# Altium schematic symbol library Mod.SchLib: 25 symbols
Pins are listed as number, name and electrical type; pins without a type are passive.

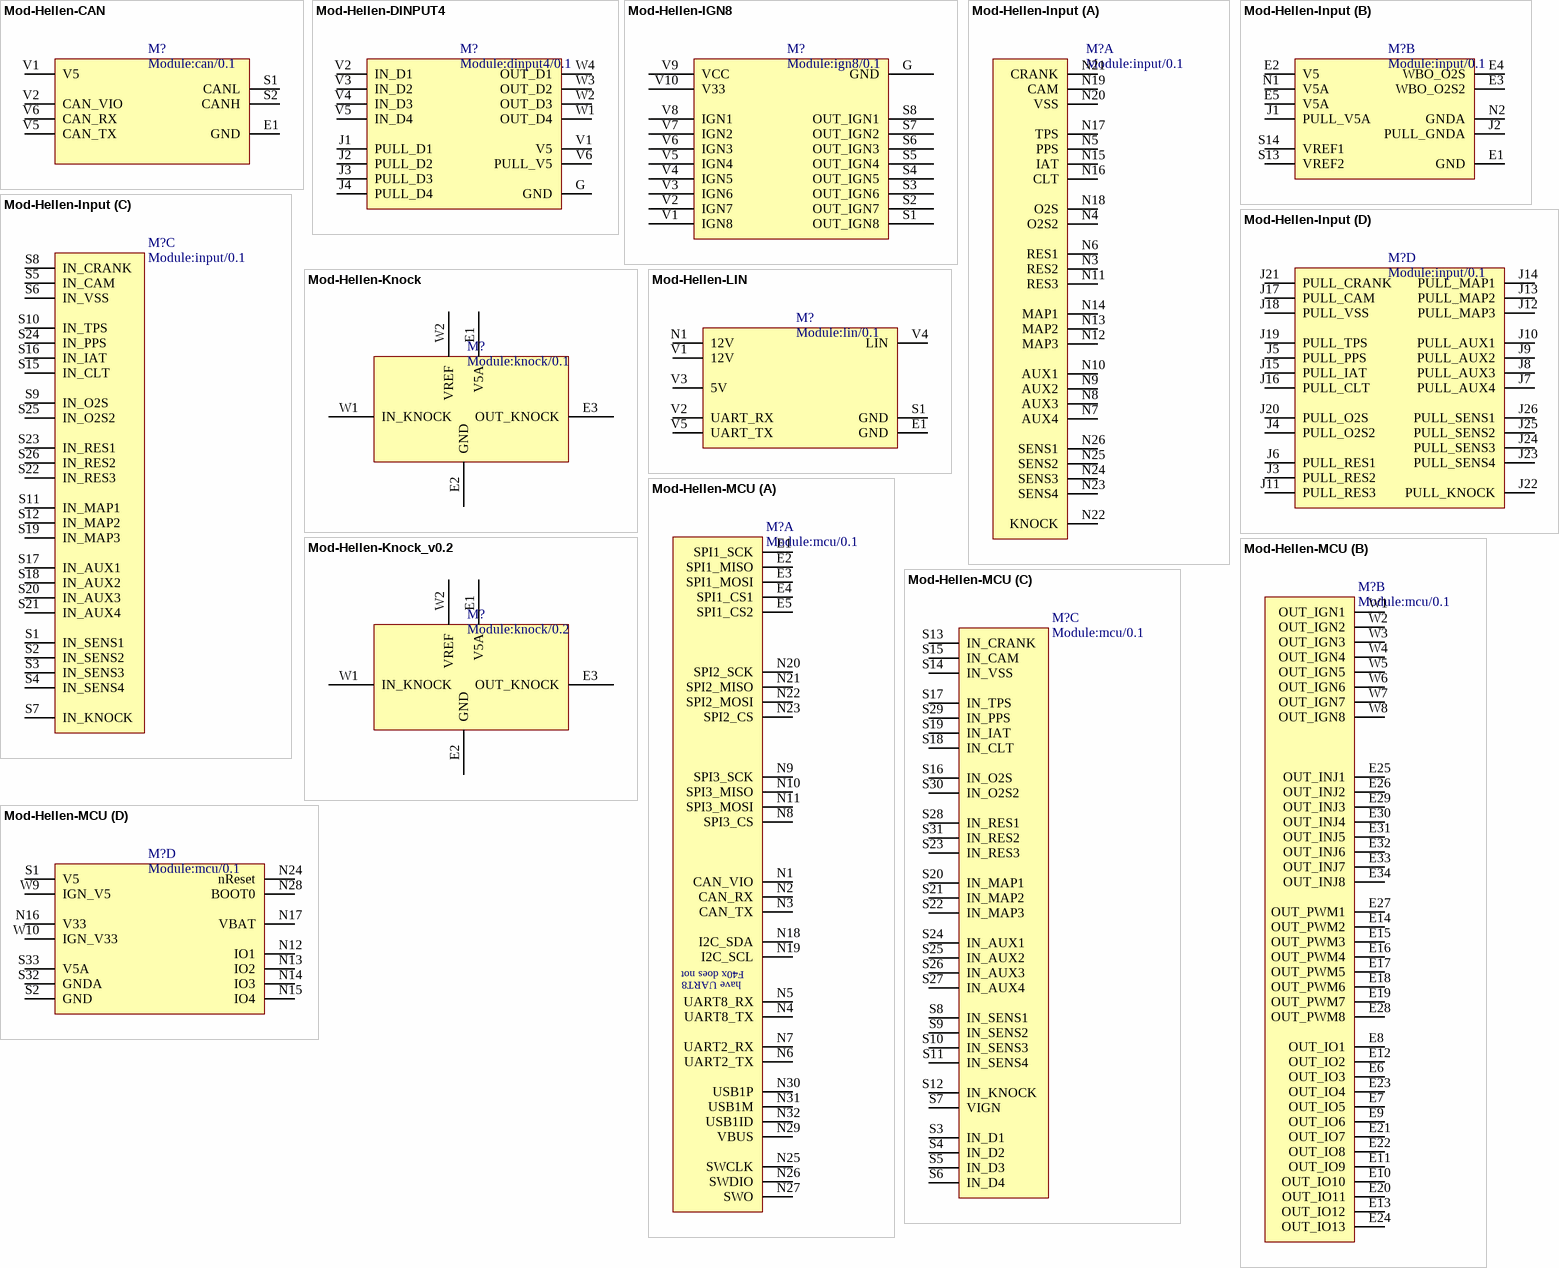
[diagram p0: symbols Mod-Hellen-CAN to Mod-Hellen-MCU]

## Mod-Hellen-CAN
designator M?, comment Module:can/0.1
Hellen-One CAN Module; Fitted: False; Publisher: andreika; Supplier Part Number 1: *; Supplier Part Number 2: *; Supplier 1: Mouser; Supplier 2: Digi-Key; Supplier 3: LCSC; Type: Module
footprint MOD_Hellen_CAN (Hellen One : CAN module interface)
pins: E1 GND, S1 CANL, S2 CANH, V1 V5, V2 CAN_VIO, V5 CAN_TX, V6 CAN_RX

## Mod-Hellen-DINPUT4
designator M?, comment Module:dinput4/0.1
Hellen-One Didital Input 4-ch Module; Fitted: False; Publisher: andreika; Supplier Part Number 1: *; Supplier Part Number 2: *; Supplier 1: Mouser; Supplier 2: Digi-Key; Supplier 3: LCSC; Type: Module
footprint MOD_Hellen_DINPUT4 (Hellen One : Digital Input 4-ch module interface)
pins: G GND, J1 PULL_D1, J2 PULL_D2, J3 PULL_D3, J4 PULL_D4, V1 V5, V2 IN_D1, V3 IN_D2, V4 IN_D3, V5 IN_D4, V6 PULL_V5, W1 OUT_D4, W2 OUT_D3, W3 OUT_D2, W4 OUT_D1

## Mod-Hellen-IGN8
designator M?, comment Module:ign8/0.1
Hellen-One 8-ch Ignition Module; Fitted: False; Publisher: andreika; Supplier Part Number 1: *; Supplier Part Number 2: *; Supplier 1: Mouser; Supplier 2: Digi-Key; Supplier 3: LCSC; Type: Module
footprint MOD_Hellen_IGN8 (Hellen One : 8-ch ignition module interface)
pins: G GND, S1 OUT_IGN8, S2 OUT_IGN7, S3 OUT_IGN6, S4 OUT_IGN5, S5 OUT_IGN4, S6 OUT_IGN3, S7 OUT_IGN2, S8 OUT_IGN1, V1 IGN8, V2 IGN7, V3 IGN6, V4 IGN5, V5 IGN4, V6 IGN3, V7 IGN2, V8 IGN1, V9 VCC, V10 V33

## Mod-Hellen-Input
designator M?, comment Module:input/0.1
Hellen-One Analog/Digital Inputs Module; Fitted: False; Publisher: andreika; Supplier Part Number 1: *; Supplier Part Number 2: *; Supplier 1: Mouser; Supplier 2: Digi-Key; Supplier 3: LCSC; Type: Module
footprint MOD_Hellen_Input (Hellen One : Analog/Digital inputs module interface)
part A pins: N3 RES2, N4 O2S2, N5 PPS, N6 RES1, N7 AUX4, N8 AUX3, N9 AUX2, N10 AUX1, N11 RES3, N12 MAP3, N13 MAP2, N14 MAP1, N15 IAT, N16 CLT, N17 TPS, N18 O2S, N19 CAM, N20 VSS, N21 CRANK, N22 KNOCK, N23 SENS4, N24 SENS3, N25 SENS2, N26 SENS1
part B pins: E1 GND, E2 V5, E3 WBO_O2S2, E4 WBO_O2S, E5 V5A, J1 PULL_V5A, J2 PULL_GNDA, N1 V5A, N2 GNDA, S13 VREF2, S14 VREF1
part C pins: S1 IN_SENS1, S2 IN_SENS2, S3 IN_SENS3, S4 IN_SENS4, S5 IN_CAM, S6 IN_VSS, S7 IN_KNOCK, S8 IN_CRANK, S9 IN_O2S, S10 IN_TPS, S11 IN_MAP1, S12 IN_MAP2, S15 IN_CLT, S16 IN_IAT, S17 IN_AUX1, S18 IN_AUX2, S19 IN_MAP3, S20 IN_AUX3, S21 IN_AUX4, S22 IN_RES3, S23 IN_RES1, S24 IN_PPS, S25 IN_O2S2, S26 IN_RES2
part D pins: J3 PULL_RES2, J4 PULL_O2S2, J5 PULL_PPS, J6 PULL_RES1, J7 PULL_AUX4, J8 PULL_AUX3, J9 PULL_AUX2, J10 PULL_AUX1, J11 PULL_RES3, J12 PULL_MAP3, J13 PULL_MAP2, J14 PULL_MAP1, J15 PULL_IAT, J16 PULL_CLT, J17 PULL_CAM, J18 PULL_VSS, J19 PULL_TPS, J20 PULL_O2S, J21 PULL_CRANK, J22 PULL_KNOCK, J23 PULL_SENS4, J24 PULL_SENS3, J25 PULL_SENS2, J26 PULL_SENS1

## Mod-Hellen-Knock
designator M?, comment Module:knock/0.1
Hellen-One Knock Pre-amplifier Module; Fitted: False; Publisher: andreika; Supplier Part Number 1: *; Supplier Part Number 2: *; Supplier 1: Mouser; Supplier 2: Digi-Key; Supplier 3: LCSC; Type: Module
footprint MOD_Hellen_Knock (Hellen One : Knock pre-amplifier module interface)
pins: E1 V5A, E2 GND, E3 OUT_KNOCK, W1 IN_KNOCK, W2 VREF

## Mod-Hellen-Knock_v0.2
designator M?, comment Module:knock/0.2
Hellen-One Knock Pre-amplifier Module; Fitted: False; Publisher: Nadezhda; Supplier Part Number 1: *; Supplier Part Number 2: *; Supplier 1: Mouser; Supplier 2: Digi-Key; Supplier 3: LCSC; Type: Module
footprint MOD_Hellen_Knock_v0.2 (Hellen One : Knock pre-amplifier module interface)
pins: E1 V5A, E2 GND, E3 OUT_KNOCK, W1 IN_KNOCK, W2 VREF

## Mod-Hellen-LIN
designator M?, comment Module:lin/0.1
Hellen-One K-LINE (LIN) Module; Fitted: False; Publisher: andreika; Supplier Part Number 1: *; Supplier Part Number 2: *; Supplier 1: Mouser; Supplier 2: Digi-Key; Supplier 3: LCSC; Type: Module
footprint MOD_Hellen_LIN (Hellen One : LIN module interface)
pins: E1 GND, N1 12V, S1 GND, V1 12V, V2 UART_RX, V3 5V, V4 LIN, V5 UART_TX

## Mod-Hellen-MCU
designator M?, comment Module:mcu/0.1
Hellen One MCU Module; Fitted: False; Publisher: andreika; Supplier Part Number 1: *; Supplier Part Number 2: *; Supplier 1: Mouser; Supplier 2: Digi-Key; Supplier 3: LCSC; Type: Module
footprint MOD_Hellen_MCU (Hellen One : MCU module interface)
part A pins: E1 SPI1_SCK, E2 SPI1_MISO, E3 SPI1_MOSI, E4 SPI1_CS1, E5 SPI1_CS2, N1 CAN_VIO, N2 CAN_RX, N3 CAN_TX, N4 UART8_TX, N5 UART8_RX, N6 UART2_TX, N7 UART2_RX, N8 SPI3_CS, N9 SPI3_SCK, N10 SPI3_MISO, N11 SPI3_MOSI, N18 I2C_SDA, N19 I2C_SCL, N20 SPI2_SCK, N21 SPI2_MISO, N22 SPI2_MOSI, N23 SPI2_CS, N25 SWCLK, N26 SWDIO, N27 SWO, N29 VBUS, N30 USB1P, N31 USB1M, N32 USB1ID
part B pins: E6 OUT_IO3, E7 OUT_IO5, E8 OUT_IO1, E9 OUT_IO6, E10 OUT_IO10, E11 OUT_IO9, E12 OUT_IO2, E13 OUT_IO12, E14 OUT_PWM2, E15 OUT_PWM3, E16 OUT_PWM4, E17 OUT_PWM5, E18 OUT_PWM6, E19 OUT_PWM7, E20 OUT_IO11, E21 OUT_IO7, E22 OUT_IO8, E23 OUT_IO4, E24 OUT_IO13, E25 OUT_INJ1, E26 OUT_INJ2, E27 OUT_PWM1, E28 OUT_PWM8, E29 OUT_INJ3, E30 OUT_INJ4, E31 OUT_INJ5, E32 OUT_INJ6, E33 OUT_INJ7, E34 OUT_INJ8, W1 OUT_IGN1, W2 OUT_IGN2, W3 OUT_IGN3, W4 OUT_IGN4, W5 OUT_IGN5, W6 OUT_IGN6, W7 OUT_IGN7, W8 OUT_IGN8
part C pins: S3 IN_D1, S4 IN_D2, S5 IN_D3, S6 IN_D4, S7 VIGN, S8 IN_SENS1, S9 IN_SENS2, S10 IN_SENS3, S11 IN_SENS4, S12 IN_KNOCK, S13 IN_CRANK, S14 IN_VSS, S15 IN_CAM, S16 IN_O2S, S17 IN_TPS, S18 IN_CLT, S19 IN_IAT, S20 IN_MAP1, S21 IN_MAP2, S22 IN_MAP3, S23 IN_RES3, S24 IN_AUX1, S25 IN_AUX2, S26 IN_AUX3, S27 IN_AUX4, S28 IN_RES1, S29 IN_PPS, S30 IN_O2S2, S31 IN_RES2
part D pins: N12 IO1, N13 IO2, N14 IO3, N15 IO4, N16 V33, N17 VBAT, N24 nReset, N28 BOOT0, S1 V5, S2 GND, S32 GNDA, S33 V5A, W9 IGN_V5, W10 IGN_V33
part A text: F40x does not; have UART8

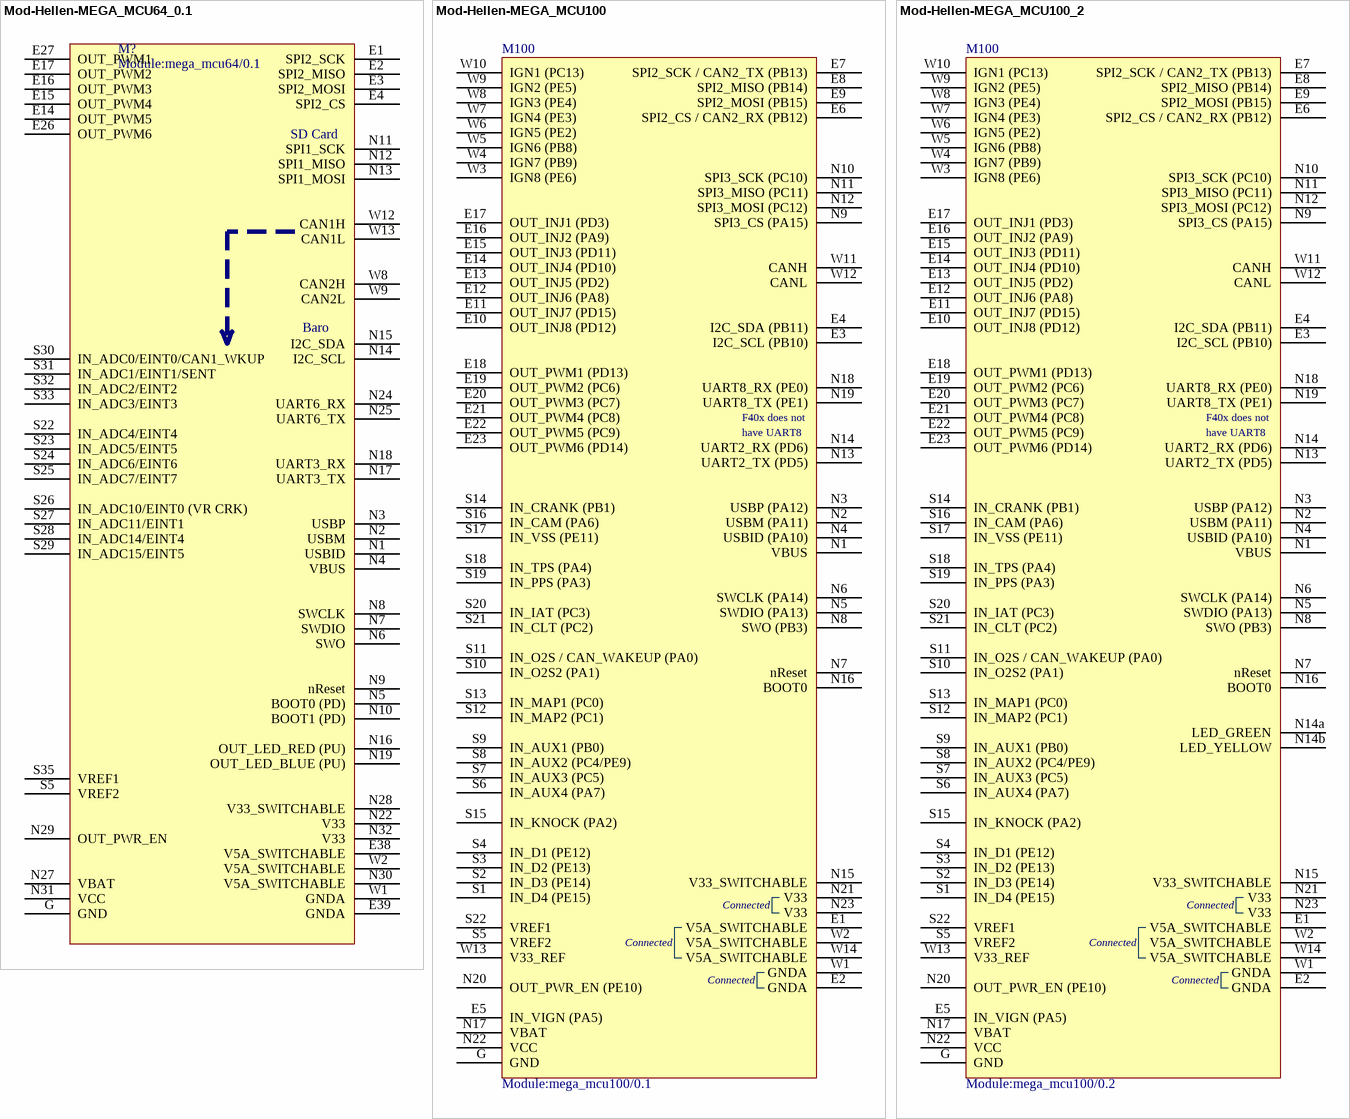
[diagram p1: symbols Mod-Hellen-MEGA_MCU64_0.1 to Mod-Hellen-MEGA_MCU100_2]

## Mod-Hellen-MEGA_MCU64_0.1
designator M?, comment Module:mega_mcu64/0.1
Hellen One MEGA_MCU64 Module; Fitted: False; Publisher: qwerty-off; Supplier Part Number 1: *; Supplier Part Number 2: *; Supplier 1: Mouser; Supplier 2: Digi-Key; Supplier 3: LCSC; Type: Module
footprint MOD_Hellen_MEGA_MCU144_0.2 (Footprint not found)
pins: E1 SPI2_SCK, E2 SPI2_MISO, E3 SPI2_MOSI, E4 SPI2_CS, E14 OUT_PWM5, E15 OUT_PWM4, E16 OUT_PWM3, E17 OUT_PWM2, E26 OUT_PWM6, E27 OUT_PWM1, E38 V5A_SWITCHABLE, E39 GNDA, G GND, N1 USBID, N2 USBM, N3 USBP, N4 VBUS, N5 BOOT0 (PD), N6 SWO, N7 SWDIO, N8 SWCLK, N9 nReset, N10 BOOT1 (PD), N11 SPI1_SCK, N12 SPI1_MISO, N13 SPI1_MOSI, N14 I2C_SCL, N15 I2C_SDA, N16 OUT_LED_RED (PU), N17 UART3_TX, N18 UART3_RX, N19 OUT_LED_BLUE (PU), N22 V33, N24 UART6_RX, N25 UART6_TX, N27 VBAT, N28 V33_SWITCHABLE, N29 OUT_PWR_EN, N30 V5A_SWITCHABLE, N31 VCC, N32 V33, S5 VREF2, S22 IN_ADC4/EINT4, S23 IN_ADC5/EINT5, S24 IN_ADC6/EINT6, S25 IN_ADC7/EINT7, S26 IN_ADC10/EINT0 (VR CRK), S27 IN_ADC11/EINT1, S28 IN_ADC14/EINT4, S29 IN_ADC15/EINT5, S30 IN_ADC0/EINT0/CAN1_WKUP, S31 IN_ADC1/EINT1/SENT, S32 IN_ADC2/EINT2, S33 IN_ADC3/EINT3, S35 VREF1, W1 GNDA, W2 V5A_SWITCHABLE, W8 CAN2H, W9 CAN2L, W12 CAN1H, W13 CAN1L
text: SD Card; Baro

## Mod-Hellen-MEGA_MCU100
designator M100, comment Module:mega_mcu100/0.1
Hellen One MEGA_MCU100 Module; Fitted: False; Publisher: qwerty-off; Supplier Part Number 1: *; Supplier Part Number 2: *; Supplier 1: Mouser; Supplier 2: Digi-Key; Supplier 3: LCSC; Type: Module
footprint MOD_Hellen_MEGA_MCU100_0.1 (Footprint not found)
pins: E1 V5A_SWITCHABLE, E2 GNDA, E3 I2C_SCL (PB10), E4 I2C_SDA (PB11), E5 IN_VIGN (PA5), E6 SPI2_CS / CAN2_RX (PB12), E7 SPI2_SCK / CAN2_TX (PB13), E8 SPI2_MISO (PB14), E9 SPI2_MOSI (PB15), E10 OUT_INJ8 (PD12), E11 OUT_INJ7 (PD15), E12 OUT_INJ6 (PA8), E13 OUT_INJ5 (PD2), E14 OUT_INJ4 (PD10), E15 OUT_INJ3 (PD11), E16 OUT_INJ2 (PA9), E17 OUT_INJ1 (PD3), E18 OUT_PWM1 (PD13), E19 OUT_PWM2 (PC6), E20 OUT_PWM3 (PC7), E21 OUT_PWM4 (PC8), E22 OUT_PWM5 (PC9), E23 OUT_PWM6 (PD14), G GND, N1 VBUS, N2 USBM (PA11), N3 USBP (PA12), N4 USBID (PA10), N5 SWDIO (PA13), N6 SWCLK (PA14), N7 nReset, N8 SWO (PB3), N9 SPI3_CS (PA15), N10 SPI3_SCK (PC10), N11 SPI3_MISO (PC11), N12 SPI3_MOSI (PC12), N13 UART2_TX (PD5), N14 UART2_RX (PD6), N15 V33_SWITCHABLE, N16 BOOT0, N17 VBAT, N18 UART8_RX (PE0), N19 UART8_TX (PE1), N20 OUT_PWR_EN (PE10), N21 V33, N22 VCC, N23 V33, S1 IN_D4 (PE15), S2 IN_D3 (PE14), S3 IN_D2 (PE13), S4 IN_D1 (PE12), S5 VREF2, S6 IN_AUX4 (PA7), S7 IN_AUX3 (PC5), S8 IN_AUX2 (PC4/PE9), S9 IN_AUX1 (PB0), S10 IN_O2S2 (PA1), S11 IN_O2S / CAN_WAKEUP (PA0), S12 IN_MAP2 (PC1), S13 IN_MAP1 (PC0), S14 IN_CRANK (PB1), S15 IN_KNOCK (PA2), S16 IN_CAM (PA6), S17 IN_VSS (PE11), S18 IN_TPS (PA4), S19 IN_PPS (PA3), S20 IN_IAT (PC3), S21 IN_CLT (PC2), S22 VREF1, W1 GNDA, W2 V5A_SWITCHABLE, W3 IGN8 (PE6), W4 IGN7 (PB9), W5 IGN6 (PB8), W6 IGN5 (PE2), W7 IGN4 (PE3), W8 IGN3 (PE4), W9 IGN2 (PE5), W10 IGN1 (PC13), W11 CANH, W12 CANL, W13 V33_REF, W14 V5A_SWITCHABLE
text: F40x does not; have UART8; Connected

## Mod-Hellen-MEGA_MCU100_2
designator M100, comment Module:mega_mcu100/0.2
Hellen One MEGA_MCU100 Module; Fitted: False; Publisher: qwerty-off; Supplier Part Number 1: *; Supplier Part Number 2: *; Supplier 1: Mouser; Supplier 2: Digi-Key; Supplier 3: LCSC; Type: Module
footprint MOD_Hellen_MEGA_MCU100_0.2 (Hellen One : MEGA MCU100 module interface)
pins: E1 V5A_SWITCHABLE, E2 GNDA, E3 I2C_SCL (PB10), E4 I2C_SDA (PB11), E5 IN_VIGN (PA5), E6 SPI2_CS / CAN2_RX (PB12), E7 SPI2_SCK / CAN2_TX (PB13), E8 SPI2_MISO (PB14), E9 SPI2_MOSI (PB15), E10 OUT_INJ8 (PD12), E11 OUT_INJ7 (PD15), E12 OUT_INJ6 (PA8), E13 OUT_INJ5 (PD2), E14 OUT_INJ4 (PD10), E15 OUT_INJ3 (PD11), E16 OUT_INJ2 (PA9), E17 OUT_INJ1 (PD3), E18 OUT_PWM1 (PD13), E19 OUT_PWM2 (PC6), E20 OUT_PWM3 (PC7), E21 OUT_PWM4 (PC8), E22 OUT_PWM5 (PC9), E23 OUT_PWM6 (PD14), G GND, N1 VBUS, N2 USBM (PA11), N3 USBP (PA12), N4 USBID (PA10), N5 SWDIO (PA13), N6 SWCLK (PA14), N7 nReset, N8 SWO (PB3), N9 SPI3_CS (PA15), N10 SPI3_SCK (PC10), N11 SPI3_MISO (PC11), N12 SPI3_MOSI (PC12), N13 UART2_TX (PD5), N14 UART2_RX (PD6), N14a LED_GREEN, N14b LED_YELLOW, N15 V33_SWITCHABLE, N16 BOOT0, N17 VBAT, N18 UART8_RX (PE0), N19 UART8_TX (PE1), N20 OUT_PWR_EN (PE10), N21 V33, N22 VCC, N23 V33, S1 IN_D4 (PE15), S2 IN_D3 (PE14), S3 IN_D2 (PE13), S4 IN_D1 (PE12), S5 VREF2, S6 IN_AUX4 (PA7), S7 IN_AUX3 (PC5), S8 IN_AUX2 (PC4/PE9), S9 IN_AUX1 (PB0), S10 IN_O2S2 (PA1), S11 IN_O2S / CAN_WAKEUP (PA0), S12 IN_MAP2 (PC1), S13 IN_MAP1 (PC0), S14 IN_CRANK (PB1), S15 IN_KNOCK (PA2), S16 IN_CAM (PA6), S17 IN_VSS (PE11), S18 IN_TPS (PA4), S19 IN_PPS (PA3), S20 IN_IAT (PC3), S21 IN_CLT (PC2), S22 VREF1, W1 GNDA, W2 V5A_SWITCHABLE, W3 IGN8 (PE6), W4 IGN7 (PB9), W5 IGN6 (PB8), W6 IGN5 (PE2), W7 IGN4 (PE3), W8 IGN3 (PE4), W9 IGN2 (PE5), W10 IGN1 (PC13), W11 CANH, W12 CANL, W13 V33_REF, W14 V5A_SWITCHABLE
text: F40x does not; have UART8; Connected

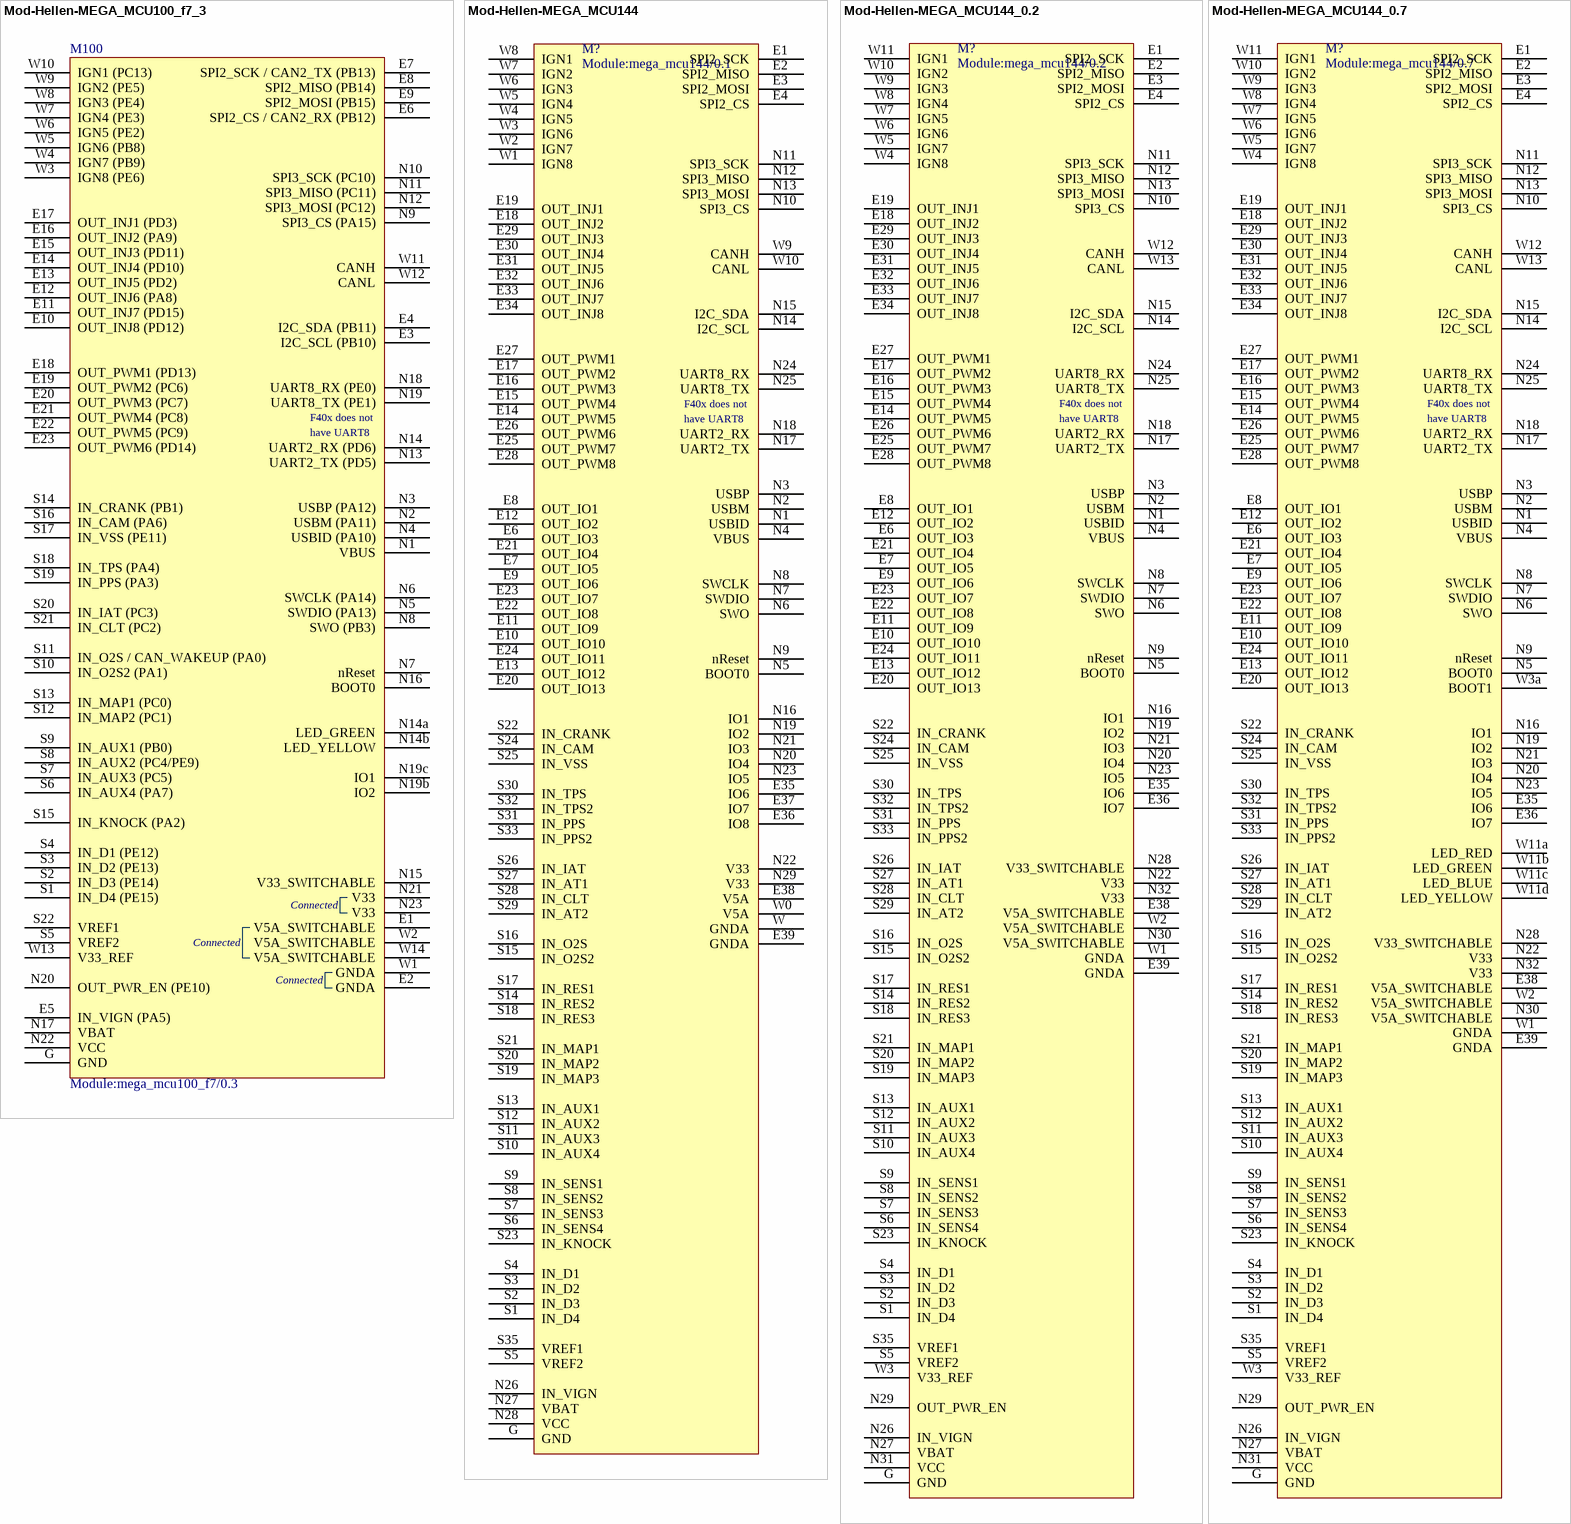
[diagram p2: symbols Mod-Hellen-MEGA_MCU100_f7_3 to Mod-Hellen-MEGA_MCU144_0.7]

## Mod-Hellen-MEGA_MCU100_f7_3
designator M100, comment Module:mega_mcu100_f7/0.3
Hellen One MEGA_MCU100 Module; Fitted: False; Publisher: qwerty-off; Supplier Part Number 1: *; Supplier Part Number 2: *; Supplier 1: Mouser; Supplier 2: Digi-Key; Supplier 3: LCSC; Type: Module
footprint MOD_Hellen_MEGA_MCU100_f7_0.3 (Footprint not found)
pins: E1 V5A_SWITCHABLE, E2 GNDA, E3 I2C_SCL (PB10), E4 I2C_SDA (PB11), E5 IN_VIGN (PA5), E6 SPI2_CS / CAN2_RX (PB12), E7 SPI2_SCK / CAN2_TX (PB13), E8 SPI2_MISO (PB14), E9 SPI2_MOSI (PB15), E10 OUT_INJ8 (PD12), E11 OUT_INJ7 (PD15), E12 OUT_INJ6 (PA8), E13 OUT_INJ5 (PD2), E14 OUT_INJ4 (PD10), E15 OUT_INJ3 (PD11), E16 OUT_INJ2 (PA9), E17 OUT_INJ1 (PD3), E18 OUT_PWM1 (PD13), E19 OUT_PWM2 (PC6), E20 OUT_PWM3 (PC7), E21 OUT_PWM4 (PC8), E22 OUT_PWM5 (PC9), E23 OUT_PWM6 (PD14), G GND, N1 VBUS, N2 USBM (PA11), N3 USBP (PA12), N4 USBID (PA10), N5 SWDIO (PA13), N6 SWCLK (PA14), N7 nReset, N8 SWO (PB3), N9 SPI3_CS (PA15), N10 SPI3_SCK (PC10), N11 SPI3_MISO (PC11), N12 SPI3_MOSI (PC12), N13 UART2_TX (PD5), N14 UART2_RX (PD6), N14a LED_GREEN, N14b LED_YELLOW, N15 V33_SWITCHABLE, N16 BOOT0, N17 VBAT, N18 UART8_RX (PE0), N19 UART8_TX (PE1), N19b IO2, N19c IO1, N20 OUT_PWR_EN (PE10), N21 V33, N22 VCC, N23 V33, S1 IN_D4 (PE15), S2 IN_D3 (PE14), S3 IN_D2 (PE13), S4 IN_D1 (PE12), S5 VREF2, S6 IN_AUX4 (PA7), S7 IN_AUX3 (PC5), S8 IN_AUX2 (PC4/PE9), S9 IN_AUX1 (PB0), S10 IN_O2S2 (PA1), S11 IN_O2S / CAN_WAKEUP (PA0), S12 IN_MAP2 (PC1), S13 IN_MAP1 (PC0), S14 IN_CRANK (PB1), S15 IN_KNOCK (PA2), S16 IN_CAM (PA6), S17 IN_VSS (PE11), S18 IN_TPS (PA4), S19 IN_PPS (PA3), S20 IN_IAT (PC3), S21 IN_CLT (PC2), S22 VREF1, W1 GNDA, W2 V5A_SWITCHABLE, W3 IGN8 (PE6), W4 IGN7 (PB9), W5 IGN6 (PB8), W6 IGN5 (PE2), W7 IGN4 (PE3), W8 IGN3 (PE4), W9 IGN2 (PE5), W10 IGN1 (PC13), W11 CANH, W12 CANL, W13 V33_REF, W14 V5A_SWITCHABLE
text: F40x does not; have UART8; Connected

## Mod-Hellen-MEGA_MCU144
designator M?, comment Module:mega_mcu144/0.1
Hellen One MEGA_MCU144 Module; Fitted: False; Publisher: qwerty-off; Supplier Part Number 1: *; Supplier Part Number 2: *; Supplier 1: Mouser; Supplier 2: Digi-Key; Supplier 3: LCSC; Type: Module
footprint MOD_Hellen_MEGA_MCU144 (Hellen One : MEGA MCU144 module interface)
pins: E1 SPI2_SCK, E2 SPI2_MISO, E3 SPI2_MOSI, E4 SPI2_CS, E6 OUT_IO3, E7 OUT_IO5, E8 OUT_IO1, E9 OUT_IO6, E10 OUT_IO10, E11 OUT_IO9, E12 OUT_IO2, E13 OUT_IO12, E14 OUT_PWM5, E15 OUT_PWM4, E16 OUT_PWM3, E17 OUT_PWM2, E18 OUT_INJ2, E19 OUT_INJ1, E20 OUT_IO13, E21 OUT_IO4, E22 OUT_IO8, E23 OUT_IO7, E24 OUT_IO11, E25 OUT_PWM7, E26 OUT_PWM6, E27 OUT_PWM1, E28 OUT_PWM8, E29 OUT_INJ3, E30 OUT_INJ4, E31 OUT_INJ5, E32 OUT_INJ6, E33 OUT_INJ7, E34 OUT_INJ8, E35 IO6, E36 IO8, E37 IO7, E38 V5A, E39 GNDA, G GND, N1 USBID, N2 USBM, N3 USBP, N4 VBUS, N5 BOOT0, N6 SWO, N7 SWDIO, N8 SWCLK, N9 nReset, N10 SPI3_CS, N11 SPI3_SCK, N12 SPI3_MISO, N13 SPI3_MOSI, N14 I2C_SCL, N15 I2C_SDA, N16 IO1, N17 UART2_TX, N18 UART2_RX, N19 IO2, N20 IO4, N21 IO3, N22 V33, N23 IO5, N24 UART8_RX, N25 UART8_TX, N26 IN_VIGN, N27 VBAT, N28 VCC, N29 V33, S1 IN_D4, S2 IN_D3, S3 IN_D2, S4 IN_D1, S5 VREF2, S6 IN_SENS4, S7 IN_SENS3, S8 IN_SENS2, S9 IN_SENS1, S10 IN_AUX4, S11 IN_AUX3, S12 IN_AUX2, S13 IN_AUX1, S14 IN_RES2, S15 IN_O2S2, S16 IN_O2S, S17 IN_RES1, S18 IN_RES3, S19 IN_MAP3, S20 IN_MAP2, S21 IN_MAP1, S22 IN_CRANK, S23 IN_KNOCK, S24 IN_CAM, S25 IN_VSS, S26 IN_IAT, S27 IN_AT1, S28 IN_CLT, S29 IN_AT2, S30 IN_TPS, S31 IN_PPS, S32 IN_TPS2, S33 IN_PPS2, S35 VREF1, W GNDA, W0 V5A, W1 IGN8, W2 IGN7, W3 IGN6, W4 IGN5, W5 IGN4, W6 IGN3, W7 IGN2, W8 IGN1, W9 CANH, W10 CANL
text: F40x does not; have UART8

## Mod-Hellen-MEGA_MCU144_0.2
designator M?, comment Module:mega_mcu144/0.2
Hellen One MEGA_MCU144 Module; Fitted: False; Publisher: qwerty-off; Supplier Part Number 1: *; Supplier Part Number 2: *; Supplier 1: Mouser; Supplier 2: Digi-Key; Supplier 3: LCSC; Type: Module
footprint MOD_Hellen_MEGA_MCU144_0.2 (Footprint not found)
pins: E1 SPI2_SCK, E2 SPI2_MISO, E3 SPI2_MOSI, E4 SPI2_CS, E6 OUT_IO3, E7 OUT_IO5, E8 OUT_IO1, E9 OUT_IO6, E10 OUT_IO10, E11 OUT_IO9, E12 OUT_IO2, E13 OUT_IO12, E14 OUT_PWM5, E15 OUT_PWM4, E16 OUT_PWM3, E17 OUT_PWM2, E18 OUT_INJ2, E19 OUT_INJ1, E20 OUT_IO13, E21 OUT_IO4, E22 OUT_IO8, E23 OUT_IO7, E24 OUT_IO11, E25 OUT_PWM7, E26 OUT_PWM6, E27 OUT_PWM1, E28 OUT_PWM8, E29 OUT_INJ3, E30 OUT_INJ4, E31 OUT_INJ5, E32 OUT_INJ6, E33 OUT_INJ7, E34 OUT_INJ8, E35 IO6, E36 IO7, E38 V5A_SWITCHABLE, E39 GNDA, G GND, N1 USBID, N2 USBM, N3 USBP, N4 VBUS, N5 BOOT0, N6 SWO, N7 SWDIO, N8 SWCLK, N9 nReset, N10 SPI3_CS, N11 SPI3_SCK, N12 SPI3_MISO, N13 SPI3_MOSI, N14 I2C_SCL, N15 I2C_SDA, N16 IO1, N17 UART2_TX, N18 UART2_RX, N19 IO2, N20 IO4, N21 IO3, N22 V33, N23 IO5, N24 UART8_RX, N25 UART8_TX, N26 IN_VIGN, N27 VBAT, N28 V33_SWITCHABLE, N29 OUT_PWR_EN, N30 V5A_SWITCHABLE, N31 VCC, N32 V33, S1 IN_D4, S2 IN_D3, S3 IN_D2, S4 IN_D1, S5 VREF2, S6 IN_SENS4, S7 IN_SENS3, S8 IN_SENS2, S9 IN_SENS1, S10 IN_AUX4, S11 IN_AUX3, S12 IN_AUX2, S13 IN_AUX1, S14 IN_RES2, S15 IN_O2S2, S16 IN_O2S, S17 IN_RES1, S18 IN_RES3, S19 IN_MAP3, S20 IN_MAP2, S21 IN_MAP1, S22 IN_CRANK, S23 IN_KNOCK, S24 IN_CAM, S25 IN_VSS, S26 IN_IAT, S27 IN_AT1, S28 IN_CLT, S29 IN_AT2, S30 IN_TPS, S31 IN_PPS, S32 IN_TPS2, S33 IN_PPS2, S35 VREF1, W1 GNDA, W2 V5A_SWITCHABLE, W3 V33_REF, W4 IGN8, W5 IGN7, W6 IGN6, W7 IGN5, W8 IGN4, W9 IGN3, W10 IGN2, W11 IGN1, W12 CANH, W13 CANL
text: F40x does not; have UART8

## Mod-Hellen-MEGA_MCU144_0.7
designator M?, comment Module:mega_mcu144/0.7
Hellen One MEGA_MCU144 Module; Fitted: False; Publisher: qwerty-off; Supplier Part Number 1: *; Supplier Part Number 2: *; Supplier 1: Mouser; Supplier 2: Digi-Key; Supplier 3: LCSC; Type: Module
footprint MOD_Hellen_MEGA_MCU144_0.7 (Hellen One : MEGA MCU144 module interface)
pins: E1 SPI2_SCK, E2 SPI2_MISO, E3 SPI2_MOSI, E4 SPI2_CS, E6 OUT_IO3, E7 OUT_IO5, E8 OUT_IO1, E9 OUT_IO6, E10 OUT_IO10, E11 OUT_IO9, E12 OUT_IO2, E13 OUT_IO12, E14 OUT_PWM5, E15 OUT_PWM4, E16 OUT_PWM3, E17 OUT_PWM2, E18 OUT_INJ2, E19 OUT_INJ1, E20 OUT_IO13, E21 OUT_IO4, E22 OUT_IO8, E23 OUT_IO7, E24 OUT_IO11, E25 OUT_PWM7, E26 OUT_PWM6, E27 OUT_PWM1, E28 OUT_PWM8, E29 OUT_INJ3, E30 OUT_INJ4, E31 OUT_INJ5, E32 OUT_INJ6, E33 OUT_INJ7, E34 OUT_INJ8, E35 IO6, E36 IO7, E38 V5A_SWITCHABLE, E39 GNDA, G GND, N1 USBID, N2 USBM, N3 USBP, N4 VBUS, N5 BOOT0, N6 SWO, N7 SWDIO, N8 SWCLK, N9 nReset, N10 SPI3_CS, N11 SPI3_SCK, N12 SPI3_MISO, N13 SPI3_MOSI, N14 I2C_SCL, N15 I2C_SDA, N16 IO1, N17 UART2_TX, N18 UART2_RX, N19 IO2, N20 IO4, N21 IO3, N22 V33, N23 IO5, N24 UART8_RX, N25 UART8_TX, N26 IN_VIGN, N27 VBAT, N28 V33_SWITCHABLE, N29 OUT_PWR_EN, N30 V5A_SWITCHABLE, N31 VCC, N32 V33, S1 IN_D4, S2 IN_D3, S3 IN_D2, S4 IN_D1, S5 VREF2, S6 IN_SENS4, S7 IN_SENS3, S8 IN_SENS2, S9 IN_SENS1, S10 IN_AUX4, S11 IN_AUX3, S12 IN_AUX2, S13 IN_AUX1, S14 IN_RES2, S15 IN_O2S2, S16 IN_O2S, S17 IN_RES1, S18 IN_RES3, S19 IN_MAP3, S20 IN_MAP2, S21 IN_MAP1, S22 IN_CRANK, S23 IN_KNOCK, S24 IN_CAM, S25 IN_VSS, S26 IN_IAT, S27 IN_AT1, S28 IN_CLT, S29 IN_AT2, S30 IN_TPS, S31 IN_PPS, S32 IN_TPS2, S33 IN_PPS2, S35 VREF1, W1 GNDA, W2 V5A_SWITCHABLE, W3 V33_REF, W3a BOOT1, W4 IGN8, W5 IGN7, W6 IGN6, W7 IGN5, W8 IGN4, W9 IGN3, W10 IGN2, W11 IGN1, W11a LED_RED, W11b LED_GREEN, W11c LED_BLUE, W11d LED_YELLOW, W12 CANH, W13 CANL
text: F40x does not; have UART8

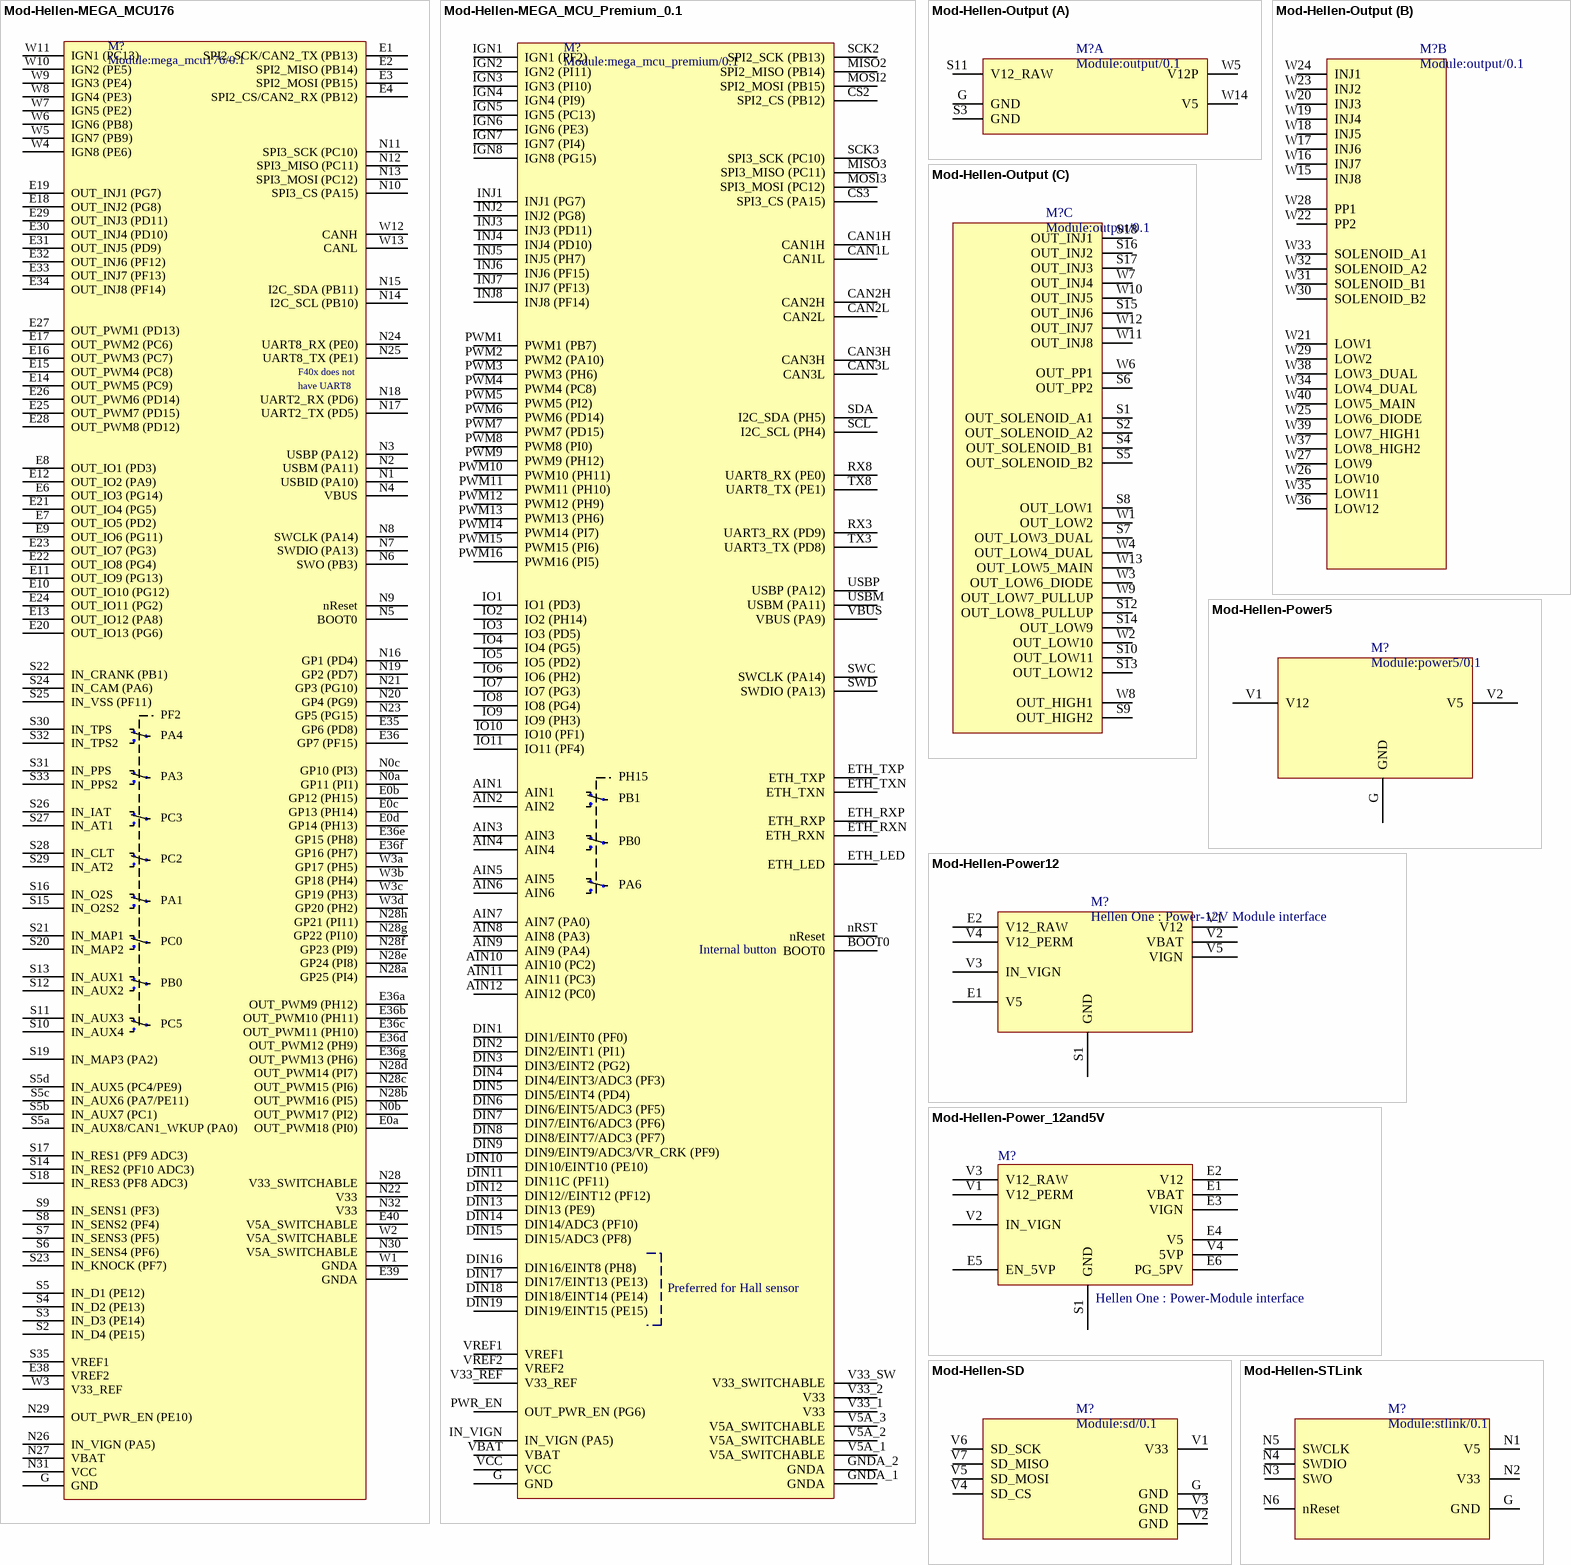
[diagram p3: symbols Mod-Hellen-MEGA_MCU176 to Mod-Hellen-STLink]

## Mod-Hellen-MEGA_MCU176
designator M?, comment Module:mega_mcu176/0.1
Hellen One MEGA_MCU176 Module; Fitted: False; Publisher: qwerty-off; Supplier Part Number 1: *; Supplier Part Number 2: *; Supplier 1: Mouser; Supplier 2: Digi-Key; Supplier 3: LCSC; Type: Module
footprint MOD_Hellen_MEGA_MCU176_0.1 (Footprint not found)
pins: E0a OUT_PWM18 (PI0), E0b GP12 (PH15), E0c GP13 (PH14), E0d GP14 (PH13), E1 SPI2_SCK/CAN2_TX (PB13), E2 SPI2_MISO (PB14), E3 SPI2_MOSI (PB15), E4 SPI2_CS/CAN2_RX (PB12), E6 OUT_IO3 (PG14), E7 OUT_IO5 (PD2), E8 OUT_IO1 (PD3), E9 OUT_IO6 (PG11), E10 OUT_IO10 (PG12), E11 OUT_IO9 (PG13), E12 OUT_IO2 (PA9), E13 OUT_IO12 (PA8), E14 OUT_PWM5 (PC9), E15 OUT_PWM4 (PC8), E16 OUT_PWM3 (PC7), E17 OUT_PWM2 (PC6), E18 OUT_INJ2 (PG8), E19 OUT_INJ1 (PG7), E20 OUT_IO13 (PG6), E21 OUT_IO4 (PG5), E22 OUT_IO8 (PG4), E23 OUT_IO7 (PG3), E24 OUT_IO11 (PG2), E25 OUT_PWM7 (PD15), E26 OUT_PWM6 (PD14), E27 OUT_PWM1 (PD13), E28 OUT_PWM8 (PD12), E29 OUT_INJ3 (PD11), E30 OUT_INJ4 (PD10), E31 OUT_INJ5 (PD9), E32 OUT_INJ6 (PF12), E33 OUT_INJ7 (PF13), E34 OUT_INJ8 (PF14), E35 GP6 (PD8), E36 GP7 (PF15), E36a OUT_PWM9 (PH12), E36b OUT_PWM10 (PH11), E36c OUT_PWM11 (PH10), E36d OUT_PWM12 (PH9), E36e GP15 (PH8), E36f GP16 (PH7), E36g OUT_PWM13 (PH6), E38 VREF2, E39 GNDA, E40 V5A_SWITCHABLE, G GND, N0a GP11 (PI1), N0b OUT_PWM17 (PI2), N0c GP10 (PI3), N1 USBID (PA10), N2 USBM (PA11), N3 USBP (PA12), N4 VBUS, N5 BOOT0, N6 SWO (PB3), N7 SWDIO (PA13), N8 SWCLK (PA14), N9 nReset, N10 SPI3_CS (PA15), N11 SPI3_SCK (PC10), N12 SPI3_MISO (PC11), N13 SPI3_MOSI (PC12), N14 I2C_SCL (PB10), N15 I2C_SDA (PB11), N16 GP1 (PD4), N17 UART2_TX (PD5), N18 UART2_RX (PD6), N19 GP2 (PD7), N20 GP4 (PG9), N21 GP3 (PG10), N22 V33, N23 GP5 (PG15), N24 UART8_RX (PE0), N25 UART8_TX (PE1), N26 IN_VIGN (PA5), N27 VBAT, N28 V33_SWITCHABLE, N28a GP25 (PI4), N28b OUT_PWM16 (PI5), N28c OUT_PWM15 (PI6), N28d OUT_PWM14 (PI7), N28e GP24 (PI8), N28f GP23 (PI9), N28g GP22 (PI10), N28h GP21 (PI11), N29 OUT_PWR_EN (PE10), N30 V5A_SWITCHABLE, N31 VCC, N32 V33, S2 IN_D4 (PE15), S3 IN_D3 (PE14), S4 IN_D2 (PE13), S5 IN_D1 (PE12), S5a IN_AUX8/CAN1_WKUP (PA0), S5b IN_AUX7 (PC1), S5c IN_AUX6 (PA7/PE11), S5d IN_AUX5 (PC4/PE9), S6 IN_SENS4 (PF6), S7 IN_SENS3 (PF5), S8 IN_SENS2 (PF4), S9 IN_SENS1 (PF3), S10 IN_AUX4, S11 IN_AUX3, S12 IN_AUX2, S13 IN_AUX1, S14 IN_RES2 (PF10 ADC3), S15 IN_O2S2, S16 IN_O2S, S17 IN_RES1 (PF9 ADC3), S18 IN_RES3 (PF8 ADC3), S19 IN_MAP3 (PA2), S20 IN_MAP2, S21 IN_MAP1, S22 IN_CRANK (PB1), S23 IN_KNOCK (PF7), S24 IN_CAM (PA6), S25 IN_VSS (PF11), S26 IN_IAT, S27 IN_AT1, S28 IN_CLT, S29 IN_AT2, S30 IN_TPS, S31 IN_PPS, S32 IN_TPS2, S33 IN_PPS2, S35 VREF1, W1 GNDA, W2 V5A_SWITCHABLE, W3 V33_REF, W3a GP17 (PH5), W3b GP18 (PH4), W3c GP19 (PH3), W3d GP20 (PH2), W4 IGN8 (PE6), W5 IGN7 (PB9), W6 IGN6 (PB8), W7 IGN5 (PE2), W8 IGN4 (PE3), W9 IGN3 (PE4), W10 IGN2 (PE5), W11 IGN1 (PC13), W12 CANH, W13 CANL
text: F40x does not; have UART8; PF2; PA4; PA3; PC3; PC2; PA1; PC0; PB0; PC5

## Mod-Hellen-MEGA_MCU_Premium_0.1
designator M?, comment Module:mega_mcu_premium/0.1
Hellen One MEGA_MCU_Premium Module; Fitted: False; Publisher: qwerty-off; Supplier Part Number 1: *; Supplier Part Number 2: *; Supplier 1: Mouser; Supplier 2: Digi-Key; Supplier 3: LCSC; Type: Module
footprint MOD_Hellen_MEGA_MCU_PREMIUM_0.1 (Hellen One : MEGA MCU PREMIUM module interface)
pins: AIN1, AIN2, AIN3, AIN4, AIN5, AIN6, AIN7 AIN7 (PA0), AIN8 AIN8 (PA3), AIN9 AIN9 (PA4), AIN10 AIN10 (PC2), AIN11 AIN11 (PC3), AIN12 AIN12 (PC0), BOOT0, CAN1H, CAN1L, CAN2H, CAN2L, CAN3H, CAN3L, CS2 SPI2_CS (PB12), CS3 SPI3_CS (PA15), DIN1 DIN1/EINT0 (PF0), DIN2 DIN2/EINT1 (PI1), DIN3 DIN3/EINT2 (PG2), DIN4 DIN4/EINT3/ADC3 (PF3), DIN5 DIN5/EINT4 (PD4), DIN6 DIN6/EINT5/ADC3 (PF5), DIN7 DIN7/EINT6/ADC3 (PF6), DIN8 DIN8/EINT7/ADC3 (PF7), DIN9 DIN9/EINT9/ADC3/VR_CRK (PF9), DIN10 DIN10/EINT10 (PE10), DIN11 DIN11C (PF11), DIN12 DIN12//EINT12 (PF12), DIN13 DIN13 (PE9), DIN14 DIN14/ADC3 (PF10), DIN15 DIN15/ADC3 (PF8), DIN16 DIN16/EINT8 (PH8), DIN17 DIN17/EINT13 (PE13), DIN18 DIN18/EINT14 (PE14), DIN19 DIN19/EINT15 (PE15), ETH_LED, ETH_RXN, ETH_RXP, ETH_TXN, ETH_TXP, G GND, GNDA_1 GNDA, GNDA_2 GNDA, IGN1 IGN1 (PF2), IGN2 IGN2 (PI11), IGN3 IGN3 (PI10), IGN4 IGN4 (PI9), IGN5 IGN5 (PC13), IGN6 IGN6 (PE3), IGN7 IGN7 (PI4), IGN8 IGN8 (PG15), IN_VIGN IN_VIGN (PA5), INJ1 INJ1 (PG7), INJ2 INJ2 (PG8), INJ3 INJ3 (PD11), INJ4 INJ4 (PD10), INJ5 INJ5 (PH7), INJ6 INJ6 (PF15), INJ7 INJ7 (PF13), INJ8 INJ8 (PF14), IO1 IO1 (PD3), IO2 IO2 (PH14), IO3 IO3 (PD5), IO4 IO4 (PG5), IO5 IO5 (PD2), IO6 IO6 (PH2), IO7 IO7 (PG3), IO8 IO8 (PG4), IO9 IO9 (PH3), IO10 IO10 (PF1), IO11 IO11 (PF4), MISO2 SPI2_MISO (PB14), MISO3 SPI3_MISO (PC11), MOSI2 SPI2_MOSI (PB15), MOSI3 SPI3_MOSI (PC12), nRST nReset, PWM1 PWM1 (PB7), PWM2 PWM2 (PA10), PWM3 PWM3 (PH6), PWM4 PWM4 (PC8), PWM5 PWM5 (PI2), PWM6 PWM6 (PD14), PWM7 PWM7 (PD15), PWM8 PWM8 (PI0), PWM9 PWM9 (PH12), PWM10 PWM10 (PH11), PWM11 PWM11 (PH10), PWM12 PWM12 (PH9), PWM13 PWM13 (PH6), PWM14 PWM14 (PI7), PWM15 PWM15 (PI6), PWM16 PWM16 (PI5), PWR_EN OUT_PWR_EN (PG6), RX3 UART3_RX (PD9), RX8 UART8_RX (PE0), SCK2 SPI2_SCK (PB13), SCK3 SPI3_SCK (PC10), SCL I2C_SCL (PH4), SDA I2C_SDA (PH5), SWC SWCLK (PA14), SWD SWDIO (PA13), TX3 UART3_TX (PD8), TX8 UART8_TX (PE1), USBM USBM (PA11), USBP USBP (PA12), V5A_1 V5A_SWITCHABLE, V5A_2 V5A_SWITCHABLE, V5A_3 V5A_SWITCHABLE, V33_1 V33, V33_2 V33, V33_REF, V33_SW V33_SWITCHABLE, VBAT, VBUS VBUS (PA9), VCC, VREF1, VREF2
text: PH15; PB1; PB0; PA6; Internal button; Preferred for Hall sensor

## Mod-Hellen-Output
designator M?, comment Module:output/0.1
Hellen-One Outputs Module; Fitted: False; Publisher: andreika; Supplier Part Number 1: *; Supplier Part Number 2: *; Supplier 1: Mouser; Supplier 2: Digi-Key; Supplier 3: LCSC; Type: Module
footprint MOD_Hellen_OUTPUT (Hellen One : Outputs module interface)
part A pins: G GND, S3 GND, S11 V12_RAW "+12V input", W5 V12P "+12V output", W14 V5 "+5V input"
part B pins: W15 INJ8, W16 INJ7, W17 INJ6, W18 INJ5, W19 INJ4, W20 INJ3, W21 LOW1, W22 PP2 "push-pull", W23 INJ2, W24 INJ1, W25 LOW6_DIODE, W26 LOW10, W27 LOW9, W28 PP1 "push-pull", W29 LOW2, W30 SOLENOID_B2, W31 SOLENOID_B1, W32 SOLENOID_A2, W33 SOLENOID_A1, W34 LOW4_DUAL, W35 LOW11, W36 LOW12, W37 LOW8_HIGH2, W38 LOW3_DUAL, W39 LOW7_HIGH1, W40 LOW5_MAIN
part C pins: S1 OUT_SOLENOID_A1, S2 OUT_SOLENOID_A2, S4 OUT_SOLENOID_B1, S5 OUT_SOLENOID_B2, S6 OUT_PP2, S7 OUT_LOW3_DUAL, S8 OUT_LOW1, S9 OUT_HIGH2, S10 OUT_LOW11, S12 OUT_LOW8_PULLUP, S13 OUT_LOW12, S14 OUT_LOW9, S15 OUT_INJ6, S16 OUT_INJ2, S17 OUT_INJ3, S18 OUT_INJ1, W1 OUT_LOW2, W2 OUT_LOW10, W3 OUT_LOW6_DIODE, W4 OUT_LOW4_DUAL, W6 OUT_PP1, W7 OUT_INJ4, W8 OUT_HIGH1, W9 OUT_LOW7_PULLUP, W10 OUT_INJ5, W11 OUT_INJ8, W12 OUT_INJ7, W13 OUT_LOW5_MAIN

## Mod-Hellen-Power5
designator M?, comment Module:power5/0.1
Hellen-One Power-5V Module; Fitted: False; Publisher: andreika; Supplier Part Number 1: *; Supplier Part Number 2: *; Supplier 1: Mouser; Supplier 2: Digi-Key; Supplier 3: LCSC; Type: Module
footprint MOD_Hellen_POWER_5 (Hellen One : 5V power module interface)
pins: G GND, V1 V12, V2 V5

## Mod-Hellen-Power12
designator M?, comment Hellen One : Power-12V Module interface
Hellen-One Power-12V Module; Fitted: False; Publisher: andreika; Supplier Part Number 1: *; Supplier Part Number 2: *; Supplier 1: Mouser; Supplier 2: Digi-Key; Supplier 3: LCSC; Type: Module
footprint MOD_Hellen_POWER_12 (Hellen One : 12V power module interface)
pins: E1 V5, E2 V12_RAW, S1 GND, V1 V12, V2 VBAT, V3 IN_VIGN, V4 V12_PERM, V5 VIGN

## Mod-Hellen-Power_12and5V
designator M?, comment Hellen One : Power-Module interface
Hellen-One Power Module; Fitted: False; Supplier Part Number 1: *; Supplier Part Number 2: *; Supplier 1: Mouser; Supplier 2: Digi-Key; Supplier 3: LCSC; Type: Module
footprint MOD_Hellen_POWER_12and5V (Hellen One : power module interface)
pins: E1 VBAT, E2 V12, E3 VIGN, E4 V5, E5 EN_5VP, E6 PG_5PV, S1 GND, V1 V12_PERM, V2 IN_VIGN, V3 V12_RAW, V4 5VP

## Mod-Hellen-SD
designator M?, comment Module:sd/0.1
Hellen-One microSD Card Module; Fitted: False; Publisher: andreika; Supplier Part Number 1: *; Supplier Part Number 2: *; Supplier 1: Mouser; Supplier 2: Digi-Key; Supplier 3: LCSC; Type: Module
footprint MOD_Hellen_SD (Hellen One : SD-card module interface)
pins: G GND, V1 V33, V2 GND, V3 GND, V4 SD_CS, V5 SD_MOSI, V6 SD_SCK, V7 SD_MISO

## Mod-Hellen-STLink
designator M?, comment Module:stlink/0.1
Hellen-One ST/Link Module; Fitted: False; Publisher: andreika; Supplier Part Number 1: *; Supplier Part Number 2: *; Supplier 1: Mouser; Supplier 2: Digi-Key; Supplier 3: LCSC; Type: Module
footprint MOD_Hellen_STLINK (Hellen One : ST/Link module interface)
pins: G GND, N1 V5, N2 V33, N3 SWO, N4 SWDIO, N5 SWCLK, N6 nReset

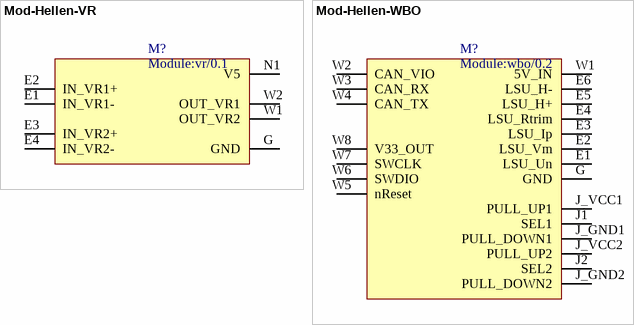
[diagram p4: symbols Mod-Hellen-VR to Mod-Hellen-WBO]

## Mod-Hellen-VR
designator M?, comment Module:vr/0.1
Hellen-One VR Module; Fitted: False; Publisher: andreika; Supplier Part Number 1: *; Supplier Part Number 2: *; Supplier 1: Mouser; Supplier 2: Digi-Key; Supplier 3: LCSC; Type: Module
footprint MOD_Hellen_VR (Hellen One : VR module interface)
pins: E1 IN_VR1-, E2 IN_VR1+, E3 IN_VR2+, E4 IN_VR2-, G GND, N1 V5, W1 OUT_VR2, W2 OUT_VR1

## Mod-Hellen-WBO
designator M?, comment Module:wbo/0.2
Hellen-One WBO Module; Fitted: False; Publisher: andreika; Supplier Part Number 1: *; Supplier Part Number 2: *; Supplier 1: Mouser; Supplier 2: Digi-Key; Supplier 3: LCSC; Type: Module
footprint MOD_HELLEN_WBO (Hellen One : WBO module interface)
pins: E1 LSU_Un, E2 LSU_Vm, E3 LSU_Ip, E4 LSU_Rtrim, E5 LSU_H+, E6 LSU_H-, G GND, J1 SEL1, J2 SEL2, J_GND1 PULL_DOWN1, J_GND2 PULL_DOWN2, J_VCC1 PULL_UP1, J_VCC2 PULL_UP2, W1 5V_IN, W2 CAN_VIO, W3 CAN_RX, W4 CAN_TX, W5 nReset, W6 SWDIO, W7 SWCLK, W8 V33_OUT